# Altium footprint library Inductor-1uH_INDC3218X200N.PcbLib: 1 footprints
Each footprint in its own frame and in the unit in brackets; x right, y up, seen from the top. Pads: shape width x height; smd on the part's side, far side on the other; paste and mask are expansions set on the pad; w line width, h text height; cw(c..) or ccw(c..) is an arc to the next point about the centre after c.
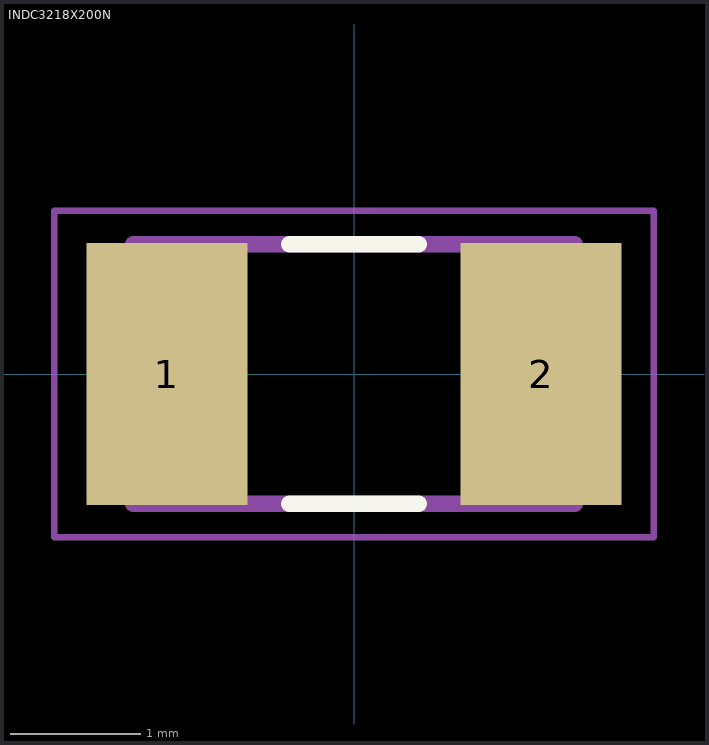
[diagram p0: the footprint, top view; thin cyan lines are the x and y axes]

## INDC3218X200N [mm]
pads (2):
  rect 1.24x2.02 smd: 1(-1.44,0) 2(1.44,0)
Top Overlay:
  lines w0.127: -0.5,-1 0.5,-1 ; -0.5,1 0.5,1
Assembly Top:
  lines w0.127: -1.7,-1 -1.7,1 1.7,1 1.7,-1 -1.7,-1
Courtyard Top:
  lines w0.05: -2.308,-1.258 -2.308,1.258 2.308,1.258 2.308,-1.258 -2.308,-1.258
3D body "step_temp.STEP": height 2, standoff 0, extent -1.6,-0.9 1.6,0.9